# Altium footprint library SAMTEC_SSW-103-03-T-D.PcbLib: 1 footprints
Each footprint in its own frame and in the unit in brackets; x right, y up, seen from the top. Pads: shape width x height; smd on the part's side, far side on the other; paste and mask are expansions set on the pad; w line width, h text height; cw(c..) or ccw(c..) is an arc to the next point about the centre after c.
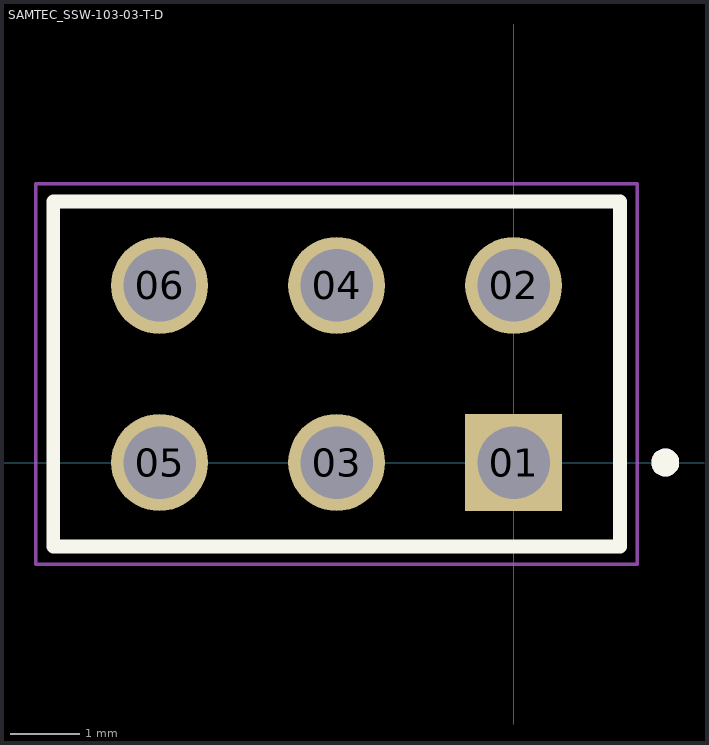
[diagram p0: the footprint, top view; thin cyan lines are the x and y axes]

## SAMTEC_SSW-103-03-T-D [mm]
pads (6):
  rect 1.39x1.39 hole 1.04: 01(0,0)
  round 1.39 hole 1.04: 02(0,2.54) 03(-2.54,0) 04(-2.54,2.54) 05(-5.08,0) 06(-5.08,2.54)
Top Overlay:
  circle w0.2: c2.175,0 r0.1
  lines w0.2: -6.605,-1.206 -6.605,3.746 1.525,3.746 1.525,-1.206 -6.605,-1.206
Mechanical 13:
  circle w0.2: c2.175,0 r0.1
  lines w0.1: -6.605,-1.206 -6.605,3.746 ; -6.605,-1.206 1.525,-1.206 ; -6.605,-1.206 -6.605,3.746 ; -6.605,3.746 1.525,3.746 ; -6.605,3.746 1.525,3.746 ; 1.525,-1.206 1.525,3.746 ; 1.525,-1.206 1.525,3.746
Mechanical 15:
  lines w0.05: -6.855,-1.456 -6.855,3.996 1.775,3.996 1.775,-1.456 -6.855,-1.456
3D body "SSW-103-03-T-D.stp": height 10.01, standoff -8.51, extent -6.604,-1.206 1.524,3.746